# Altium integrated library supply2.Library.IntLib: 50 symbols
Pins are listed as number, name and electrical type; pins without a type are passive.

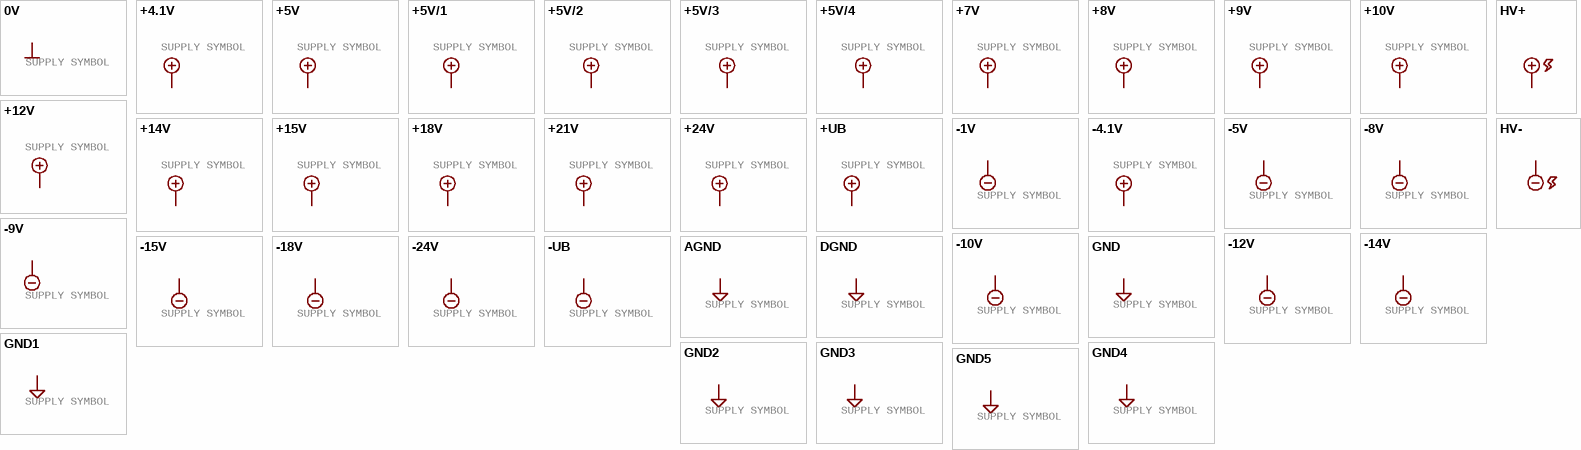
[diagram p0: symbols 0V to HV-]

## 0V
designator SUPPLY?, comment SUPPLY SYMBOL
GateName_1: 0V; SymbolName_1: 0V; LibraryName: supply2; DeviceSetName: 0V
pins: ?1 0V (power)

## +4.1V
designator SUPPLY?, comment SUPPLY SYMBOL
GateName_1: P; SymbolName_1: +4.1V; LibraryName: supply2; DeviceSetName: +4.1V
pins: ?1 +4.1V (power)

## +5V
designator SUPPLY?, comment SUPPLY SYMBOL
GateName_1: +5V; SymbolName_1: +05V; LibraryName: supply2; DeviceSetName: +5V
pins: ?1 +5V (power)

## +5V/1
designator SUPPLY?, comment SUPPLY SYMBOL
GateName_1: G$1; SymbolName_1: +05V/1; DeviceSetName: +5V/1; LibraryName: supply2
pins: ?1 +5V/1 (power)

## +5V/2
designator SUPPLY?, comment SUPPLY SYMBOL
GateName_1: G$1; SymbolName_1: +05V/2; DeviceSetName: +5V/2; LibraryName: supply2
pins: ?1 +5V/2 (power)

## +5V/3
designator SUPPLY?, comment SUPPLY SYMBOL
GateName_1: G$1; SymbolName_1: +05V/3; DeviceSetName: +5V/3; LibraryName: supply2
pins: ?1 +5V/3 (power)

## +5V/4
designator SUPPLY?, comment SUPPLY SYMBOL
GateName_1: G$1; SymbolName_1: +05V/4; DeviceSetName: +5V/4; LibraryName: supply2
pins: ?1 +5V/4 (power)

## +7V
designator SUPPLY?, comment SUPPLY SYMBOL
GateName_1: G$1; SymbolName_1: +07V; DeviceSetName: +7V; LibraryName: supply2
pins: ?1 +7V (power)

## +8V
designator SUPPLY?, comment SUPPLY SYMBOL
GateName_1: +8V; SymbolName_1: +08V; LibraryName: supply2; DeviceSetName: +8V
pins: ?1 +8V (power)

## +9V
designator SUPPLY?, comment SUPPLY SYMBOL
GateName_1: G$1; SymbolName_1: +09V; DeviceSetName: +9V; LibraryName: supply2
pins: ?1 +9V (power)

## +10V
designator SUPPLY?, comment SUPPLY SYMBOL
GateName_1: G$1; SymbolName_1: +10V; LibraryName: supply2; DeviceSetName: +10V
pins: ?1 +10V (power)

## +12V
designator SUPPLY?, comment SUPPLY SYMBOL
GateName_1: +12V; SymbolName_1: +12V; LibraryName: supply2; DeviceSetName: +12V
pins: ?1 +12V (power)

## +14V
designator SUPPLY?, comment SUPPLY SYMBOL
GateName_1: G$1; SymbolName_1: +14V; LibraryName: supply2; DeviceSetName: +14V
pins: ?1 +14V (power)

## +15V
designator SUPPLY?, comment SUPPLY SYMBOL
GateName_1: +15V; SymbolName_1: +15V; LibraryName: supply2; DeviceSetName: +15V
pins: ?1 +15V (power)

## +18V
designator SUPPLY?, comment SUPPLY SYMBOL
GateName_1: +18V; SymbolName_1: +18V; LibraryName: supply2; DeviceSetName: +18V
pins: ?1 +18V (power)

## +21V
designator SUPPLY?, comment SUPPLY SYMBOL
GateName_1: G$1; SymbolName_1: +21V; LibraryName: supply2; DeviceSetName: +21V
pins: ?1 +21V (power)

## +24V
designator SUPPLY?, comment SUPPLY SYMBOL
GateName_1: +24V; SymbolName_1: +24V; LibraryName: supply2; DeviceSetName: +24V
pins: ?1 +24V (power)

## +UB
designator SUPPLY?, comment SUPPLY SYMBOL
GateName_1: G$1; SymbolName_1: +UB; LibraryName: supply2; DeviceSetName: +UB
pins: ?1 +UB (power)

## -1V
designator SUPPLY?, comment SUPPLY SYMBOL
GateName_1: G$1; SymbolName_1: -01V; DeviceSetName: -1V; LibraryName: supply2
pins: ?1 -1V (power)

## -4.1V
designator SUPPLY?, comment SUPPLY SYMBOL
GateName_1: P; SymbolName_1: -4.1V; LibraryName: supply2; DeviceSetName: -4.1V
pins: ?1 -4.1V (power)

## -5V
designator SUPPLY?, comment SUPPLY SYMBOL
GateName_1: -5V; SymbolName_1: -05V; LibraryName: supply2; DeviceSetName: -5V
pins: ?1 -5V (power)

## -8V
designator SUPPLY?, comment SUPPLY SYMBOL
GateName_1: G$1; SymbolName_1: -08V; DeviceSetName: -8V; LibraryName: supply2
pins: ?1 -8V (power)

## -9V
designator SUPPLY?, comment SUPPLY SYMBOL
GateName_1: G$1; SymbolName_1: -09V; DeviceSetName: -9V; LibraryName: supply2
pins: ?1 -9V (power)

## -10V
designator SUPPLY?, comment SUPPLY SYMBOL
GateName_1: G$1; SymbolName_1: -10V; LibraryName: supply2; DeviceSetName: -10V
pins: ?1 -10V (power)

## -12V
designator SUPPLY?, comment SUPPLY SYMBOL
GateName_1: G$1; SymbolName_1: -12V; LibraryName: supply2; DeviceSetName: -12V
pins: ?1 -12V (power)

## -14V
designator SUPPLY?, comment SUPPLY SYMBOL
GateName_1: G$1; SymbolName_1: -14V; LibraryName: supply2; DeviceSetName: -14V
pins: ?1 -14V (power)

## -15V
designator SUPPLY?, comment SUPPLY SYMBOL
GateName_1: G$1; SymbolName_1: -15V; LibraryName: supply2; DeviceSetName: -15V
pins: ?1 -15V (power)

## -18V
designator SUPPLY?, comment SUPPLY SYMBOL
GateName_1: G$1; SymbolName_1: -18V; LibraryName: supply2; DeviceSetName: -18V
pins: ?1 -18V (power)

## -24V
designator SUPPLY?, comment SUPPLY SYMBOL
GateName_1: G$1; SymbolName_1: -24V; LibraryName: supply2; DeviceSetName: -24V
pins: ?1 -24V (power)

## -UB
designator SUPPLY?, comment SUPPLY SYMBOL
GateName_1: G$1; SymbolName_1: -UB; LibraryName: supply2; DeviceSetName: -UB
pins: ?1 -UB (power)

## AGND
designator SUPPLY?, comment SUPPLY SYMBOL
GateName_1: G$1; SymbolName_1: AGND; LibraryName: supply2; DeviceSetName: AGND
pins: ?1 AGND (power)

## DGND
designator SUPPLY?, comment SUPPLY SYMBOL
GateName_1: G$1; SymbolName_1: DGND; LibraryName: supply2; DeviceSetName: DGND
pins: ?1 DGND (power)

## GND
designator SUPPLY?, comment SUPPLY SYMBOL
GateName_1: GND; SymbolName_1: GND; LibraryName: supply2; DeviceSetName: GND
pins: ?1 GND (power)

## GND1
designator SUPPLY?, comment SUPPLY SYMBOL
GateName_1: G$1; SymbolName_1: GND1; LibraryName: supply2; DeviceSetName: GND1
pins: ?1 GND1 (power)

## GND2
designator SUPPLY?, comment SUPPLY SYMBOL
GateName_1: G$1; SymbolName_1: GND2; LibraryName: supply2; DeviceSetName: GND2
pins: ?1 GND2 (power)

## GND3
designator SUPPLY?, comment SUPPLY SYMBOL
GateName_1: G$1; SymbolName_1: GND3; LibraryName: supply2; DeviceSetName: GND3
pins: ?1 GND3 (power)

## GND4
designator SUPPLY?, comment SUPPLY SYMBOL
GateName_1: G$1; SymbolName_1: GND4; LibraryName: supply2; DeviceSetName: GND4
pins: ?1 GND4 (power)

## GND5
designator SUPPLY?, comment SUPPLY SYMBOL
GateName_1: G$1; SymbolName_1: GND5; LibraryName: supply2; DeviceSetName: GND5
pins: ?1 GND5 (power)

## HV+
designator ?
GateName_1: G$1; SymbolName_1: HV+; LibraryName: supply2; DeviceSetName: HV+
pins: ?1 HV+ (power)

## HV-
designator ?
GateName_1: G$1; SymbolName_1: HV-; LibraryName: supply2; DeviceSetName: HV-
pins: ?1 HV- (power)

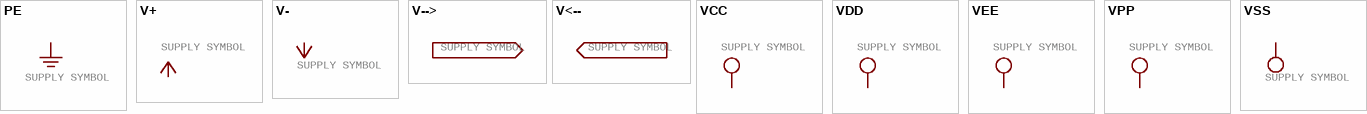
[diagram p1: symbols PE to VSS]

## PE
designator SUPPLY?, comment SUPPLY SYMBOL
GateName_1: PE; SymbolName_1: PE; LibraryName: supply2; DeviceSetName: PE
pins: ?1 PE (power)

## V+
designator SUPPLY?, comment SUPPLY SYMBOL
GateName_1: 1; SymbolName_1: V+; LibraryName: supply2; DeviceSetName: V+
pins: ?1 V+ (power)

## V-
designator SUPPLY?, comment SUPPLY SYMBOL
GateName_1: 1; SymbolName_1: V-; LibraryName: supply2; DeviceSetName: V-
pins: ?1 V- (power)

## V-->
designator SUPPLY?, comment SUPPLY SYMBOL
GateName_1: G$1; SymbolName_1: V-->; LibraryName: supply2; DeviceSetName: V-->

## V<--
designator SUPPLY?, comment SUPPLY SYMBOL
GateName_1: G$1; SymbolName_1: V<--; LibraryName: supply2; DeviceSetName: V<--

## VCC
designator SUPPLY?, comment SUPPLY SYMBOL
GateName_1: G$1; SymbolName_1: VCC; LibraryName: supply2; DeviceSetName: VCC
pins: ?1 VCC (power)

## VDD
designator SUPPLY?, comment SUPPLY SYMBOL
GateName_1: G$1; SymbolName_1: VDD; LibraryName: supply2; DeviceSetName: VDD
pins: ?1 VDD (power)

## VEE
designator SUPPLY?, comment SUPPLY SYMBOL
GateName_1: G$1; SymbolName_1: VEE; LibraryName: supply2; DeviceSetName: VEE
pins: ?1 VEE (power)

## VPP
designator SUPPLY?, comment SUPPLY SYMBOL
GateName_1: G$1; SymbolName_1: VPP; LibraryName: supply2; DeviceSetName: VPP
pins: ?1 VPP (power)

## VSS
designator SUPPLY?, comment SUPPLY SYMBOL
GateName_1: G$1; SymbolName_1: VSS; LibraryName: supply2; DeviceSetName: VSS
pins: ?1 VSS (power)